# Altium integrated library CC0402JRNPO9BN101.IntLib: 1 symbol
Pins are listed as number, name and electrical type; pins without a type are passive.

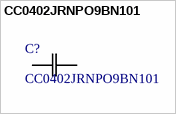
[diagram p0: symbol CC0402JRNPO9BN101]

## CC0402JRNPO9BN101
designator C?
CAPACITOR; SMT (0402); CERAMIC CHIP; 100PF; 50V; TOL=5%; TG=-55 DEGC TO +125 DEGC; TC=C0G; Manufacturer_Name: Yageo; Copyright: Copyright (C) 2025 Ultra Librarian. All rights reserved.; Manufacturer_Part_Number: CC0402JRNPO9BN101
footprint CAP_CC0402_YAG
pins: 1, 2